# Altium footprint library LTC6811.PcbLib: 9 footprints
Each footprint in its own frame and in the unit in brackets; x right, y up, seen from the top. Pads: shape width x height; smd on the part's side, far side on the other; paste and mask are expansions set on the pad; w line width, h text height; cw(c..) or ccw(c..) is an arc to the next point about the centre after c.
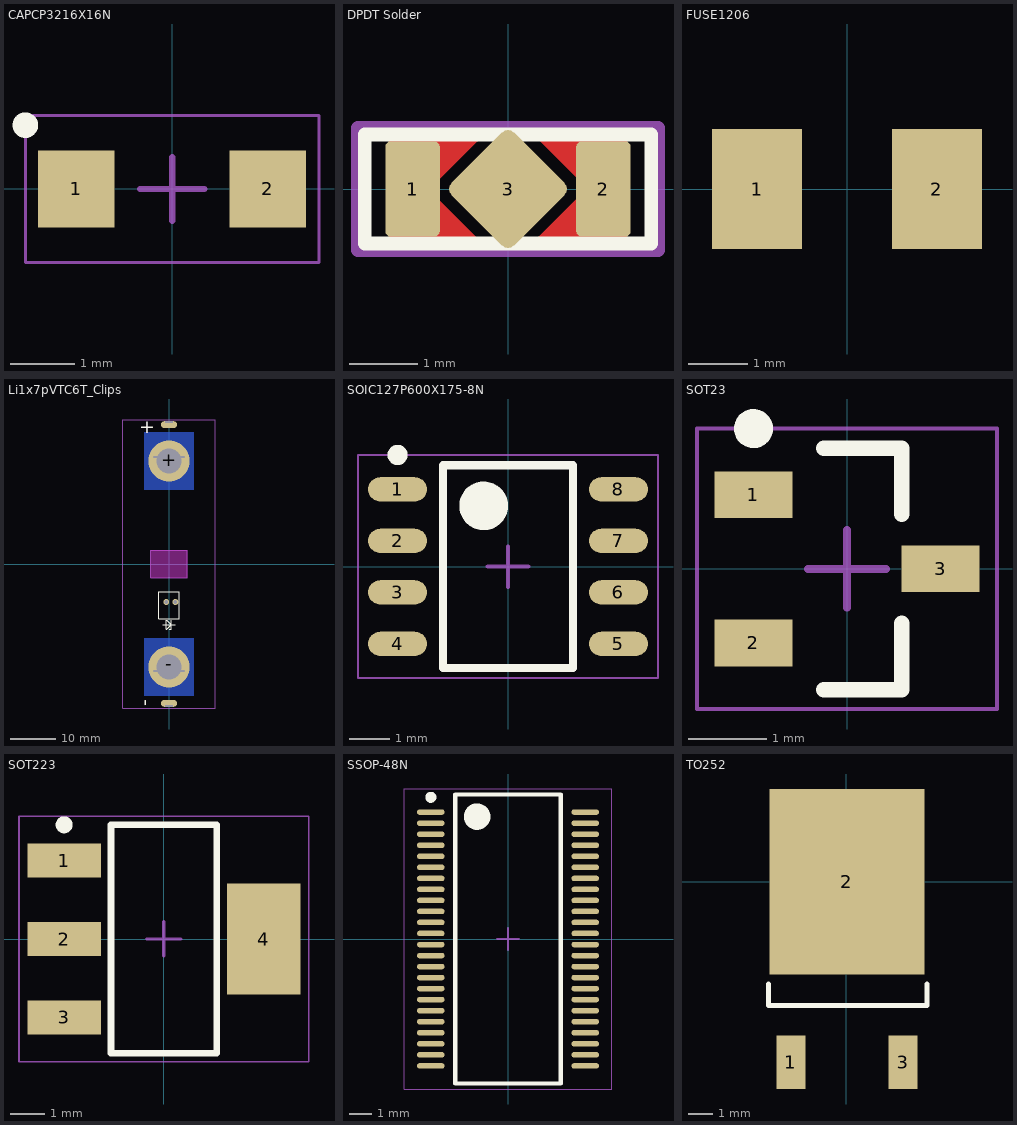
[diagram p0: the footprints below, top view; thin cyan lines are the x and y axes]

## CAPCP3216X16N [mm] "Chip Capacitor, 2-Leads, Body 3.20x1.60mm, IPC Medium Density"
height 1.6
pads (2):
  rect 1.2x1.2 smd: 1(-1.5,0) 2(1.5,0)
Top Overlay:
  circle w0.2: c-2.3,1 r0.1
Top Courtyard:
  lines w0.05: -2.3,-1.15 -2.3,1.15 2.3,1.15 2.3,-1.15 -2.3,-1.15
  lines w0.1: -0.5,0 0.5,0 ; 0,-0.5 0,0.5
3D body "User Library-CAP_TANT_3216-18_A_case-1.step": height 1.7, standoff 0, extent -1.7,-0.9 1.7,0.9

## DPDT Solder [mm]
pads (3):
  rrect20% 0.8x1.4 smd mask+0: 1(-1.4,0) 2(1.4,0)
  rrect20% 1.3x1.3 smd rot 45 mask+0: 3(0,0)
Top Layer:
  region: 1.75,-0.7 0.45,-0.7 1,-0.15 1,0.175 0.475,0.7 1.75,0.7
  region: -1.75,0.7 -0.45,0.7 -1,0.15 -1,-0.175 -0.475,-0.7 -1.75,-0.7
Top Overlay:
  lines w0.2: -2.1,-0.8 2.1,-0.8 2.1,0.8 -2.1,0.8 -2.1,-0.8
Top Solder:
  region: -1.8,0.7 1.8,0.7 1.8,-0.7 -1.8,-0.7
Top Courtyard:
  lines w0.2: -2.2,-0.9 -2.2,0.9 2.2,0.9 2.2,-0.9 -2.2,-0.9

## FUSE1206 [mm]
pads (2):
  rect 1.52x2.03 smd: 1(-1.52,0) 2(1.52,0)
3D body "User Library-Fuse_1206.step": height 1.17, standoff 0, extent -1.7,-0.9 1.7,0.9

## Li1x7pVTC6T_Clips [mm]
pads (10):
  rrect100% 3.5x1.5 hole 0.35 slot 1.7 at 0 deg: +(-2.54,23.38) +(2.54,23.38) -(-2.54,-23.38) -(2.54,-23.38)
  round 9 / inner round 7 / far side round 13 hole 5.5: +(0,22.5) -(0,-22.5)
  rrect100% 3.5x1.5 hole 0.35 slot 1.7 at 0 deg copper offset 0,-0.575: +(0,31)
  rrect100% 3.5x1.5 hole 0.35 slot 1.7 at 0 deg copper offset 0,0.575: -(0,-31)
  round 1.3 hole 0.8: T+(1.4,-8.3) T-(-0.6,-8.3)
Bottom Layer:
  rectangle: -5.5,-28.85 5.5,-16.15
  rectangle: -5.5,16.15 5.5,28.85
Top Overlay:
  lines w0.15: -1.4,-13.25 1.35,-13.25 ; 0.1,-14.25 0.487,-14.25 0.487,-12.25 0.487,-13.25 ; -0.65,-13.25 0.487,-13.25 ; -0.65,-13.25 -0.65,-14.25 -0.513,-14.25 0.487,-13.25 ; -0.65,-13.25 -0.65,-12.25 -0.513,-12.25 0.487,-13.25 ; -2.2,-12 2.2,-12 2.2,-6.1 -2.2,-6.1 -2.2,-12
  text "+" at -6.5,28.6 h3
  text "-" at -4,-31.1 h3
Bottom Overlay:
  text "-" at -4,-31.1 h3
  text "+" at -6.5,28.6 h3
Bottom Solder:
  rectangle: -5.5,-28.85 5.5,-16.15
  rectangle: -5.5,16.15 5.5,28.85
Keep-Out Layer:
  board cut-out: -4,3 4,3 4,-3 -4,-3
Keep-Out Layer:
  rectangle: -4,-3 4,3
Mechanical 1:
  lines w0.15: -4,-3 -4,3 4,3 4,-3 -4,-3
Top Courtyard:
  lines w0.15: -10.15,-31.5 10.15,-31.5 10.15,31.5 -10.15,31.5 -10.15,-31.5
3D body "350230002.stp": height 2.93, standoff 0.07, extent -2.2,-12.05 2.2,-6.15
3D body "350211201.stp": height 2.75, standoff -3.2, extent -2.15,-11.9 -0.25,-6.5
3D body "350211201.stp": height 2.75, standoff -3.2, extent -0.15,-11.9 1.75,-6.5

## SOIC127P600X175-8N [mm] "SOIC, 8-Leads, Body 4.90x3.90mm, Pitch 1.27mm, IPC Medium Density"
height 1.75
pads (8):
  oval 1.45x0.6 smd: 1(-2.725,1.905) 2(-2.725,0.635) 3(-2.725,-0.635) 4(-2.725,-1.905) 5(2.725,-1.905) 6(2.725,-0.635) 7(2.725,0.635) 8(2.725,1.905)
Top Overlay:
  circle w0.25: c-2.725,2.755 r0.125
  circle w0.6: c-0.6,1.5 r0.3
  lines w0.2: -1.6,-2.5 -1.6,2.5 1.6,2.5 1.6,-2.5 -1.6,-2.5
Top Courtyard:
  lines w0.05: -3.7,-2.75 -3.7,2.75 3.7,2.75 3.7,-2.75 -3.7,-2.75
  lines w0.1: -0.5,0 0.5,0 ; 0,-0.5 0,0.5
3D body "SOIC127P600X175-8N.step": height 1.75, standoff 0, extent -3,-2.5 3,2.5

## SOT23 [mm] "SOT23, 3-Leads, Body 2.90x2.37mm, Pitch 0.95mm, IPC Medium Density"
height 1.11
pads (3):
  rect 1x0.6 smd: 1(-1.2,0.95) 2(-1.2,-0.95) 3(1.2,0)
Top Overlay:
  circle w0.25: c-1.2,1.8 r0.125
  lines w0.2: -0.3,-1.55 0.7,-1.55 0.7,-0.7 ; -0.3,1.55 0.7,1.55 0.7,0.7
Top Courtyard:
  lines w0.05: -1.925,-1.8 1.925,-1.8 1.925,1.8 -1.925,1.8 -1.925,-1.8
  lines w0.1: -0.5,0 0.5,0 ; 0,-0.5 0,0.5
3D body "SOT23.step": height 1.11, standoff 0, extent -1.32,-1.525 1.32,1.525

## SOT223 [mm] "SOT223, 4-Leads, Body 6.50x7.00mm (avg), Pitch 2.30mm, IPC Medium Density"
height 1.8
pads (4):
  rect 2.15x1 smd: 1(-2.925,2.3) 2(-2.925,0) 3(-2.925,-2.3)
  rect 2.15x3.25 smd: 4(2.925,0)
Top Overlay:
  circle w0.25: c-2.925,3.35 r0.125
  lines w0.2: -1.55,-3.35 -1.55,3.35 1.55,3.35 1.55,-3.35 -1.55,-3.35
Top Courtyard:
  lines w0.05: -4.25,-3.6 -4.25,3.6 4.25,3.6 4.25,-3.6 -4.25,-3.6
  lines w0.1: -0.5,0 0.5,0 ; 0,-0.5 0,0.5
3D body "SOT223.step": height 1.8, standoff 0, extent -3.5,-3.35 3.5,3.35

## SSOP-48N [mm]
pads (48):
  oval 1.25x0.25 smd: 1(-3.5,5.75) 2(-3.5,5.25) 3(-3.5,4.75) 4(-3.5,4.25) 5(-3.5,3.75) 6(-3.5,3.25) 7(-3.5,2.75) 8(-3.5,2.25) 9(-3.5,1.75) 10(-3.5,1.25) 11(-3.5,0.75) 12(-3.5,0.25) 13(-3.5,-0.25) 14(-3.5,-0.75) 15(-3.5,-1.25) 16(-3.5,-1.75) 17(-3.5,-2.25) 18(-3.5,-2.75) 19(-3.5,-3.25) 20(-3.5,-3.75) 21(-3.5,-4.25) 22(-3.5,-4.75) 23(-3.5,-5.25) 24(-3.5,-5.75) 25(3.5,-5.75) 26(3.5,-5.25) 27(3.5,-4.75) 28(3.5,-4.25) 29(3.5,-3.75) 30(3.5,-3.25) 31(3.5,-2.75) 32(3.5,-2.25) 33(3.5,-1.75) 34(3.5,-1.25) 35(3.5,-0.75) 36(3.5,-0.25) 37(3.5,0.25) 38(3.5,0.75) 39(3.5,1.25) 40(3.5,1.75) 41(3.5,2.25) 42(3.5,2.75) 43(3.5,3.25) 44(3.5,3.75) 45(3.5,4.25) 46(3.5,4.75) 47(3.5,5.25) 48(3.5,5.75)
Top Overlay:
  circle w0.6: c-1.4,5.55 r0.3
  circle w0.25: c-3.5,6.425 r0.125
  lines w0.2: -2.4,-6.55 2.4,-6.55 2.4,6.55 -2.4,6.55 -2.4,-6.55
Top Courtyard:
  lines w0.05: -4.7,-6.8 4.7,-6.8 4.7,6.8 -4.7,6.8 -4.7,-6.8
  lines w0.1: -0.5,0 0.5,0 ; 0,-0.5 0,0.5
3D body "SSOP50P780X200-48N.step": height 2, standoff 0, extent -3.9,-6.55 3.9,6.55

## TO252 [mm]
pads (3):
  rect 1.2x2.2 smd: 1(-2.279,-7.409) 3(2.321,-7.409)
  rect 6.35x7.62 smd: 2(0.021,-0.009)
Top Overlay:
  lines w0.203: -3.2,-4.2 -3.2,-5.089 3.3,-5.089 3.3,-4.2
3D body "TO252 Gehäuse.step": height 2.3, standoff -0.05, extent -3.225,-7.29 3.275,1.41